# Altium footprint library PcbLib1.PcbLib: 3 footprints
Each footprint in its own frame and in the unit in brackets; x right, y up, seen from the top. Pads: shape width x height; smd on the part's side, far side on the other; paste and mask are expansions set on the pad; w line width, h text height; cw(c..) or ccw(c..) is an arc to the next point about the centre after c.
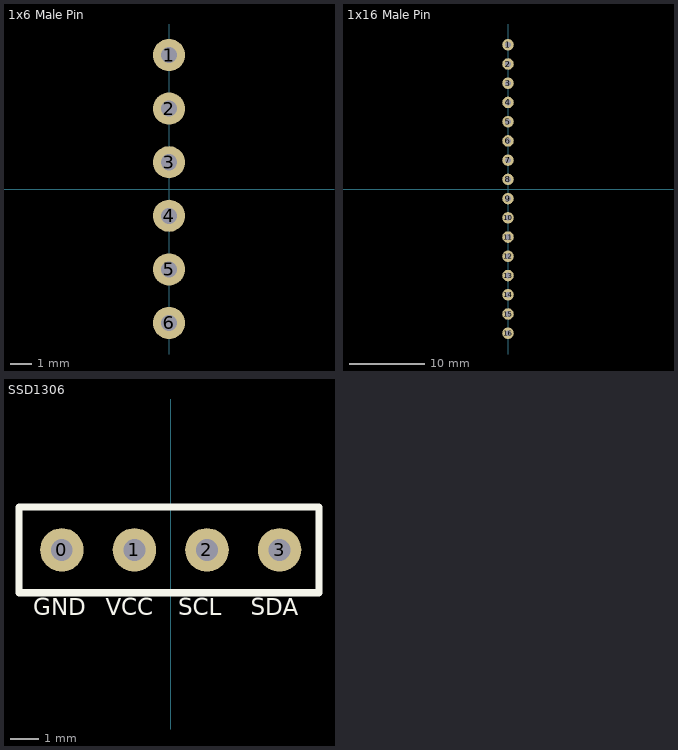
[diagram p0: the footprints below, top view; thin cyan lines are the x and y axes]

## 1x6 Male Pin [mil]
pads (6):
  round 60 hole 30: 1(0,250) 2(0,150) 3(0,50) 4(0,-50) 5(0,-150) 6(0,-250)
3D body "1x6 TH Vert 100mil.step": height 110.24, standoff -349.61, extent -50.79,-300.79 49.21,299.21

## 1x16 Male Pin [mil]
pads (16):
  round 60 hole 30: 1(0,750) 2(0,650) 3(0,550) 4(0,450) 5(0,350) 6(0,250) 7(0,150) 8(0,50) 9(0,-50) 10(0,-150) 11(0,-250) 12(0,-350) 13(0,-450) 14(0,-550) 15(0,-650) 16(0,-750)
3D body "1x16 TH Vert 100mil.step": height 110.24, standoff -349.61, extent -50,-800.79 50,799.21

## SSD1306 [mil]
pads (4):
  round 60 hole 30: 0(-150,479.82) 1(-50,479.82) 2(50,479.82) 3(150,479.82)
Top Overlay:
  lines w10: -209.06,420.77 204.33,420.77 204.33,538.88 -209.06,538.88 -209.06,479.82 -209.06,420.77
  text "SCL" at 10.63,381.83 h39.37
  text "SDA" at 110.63,381.83 h39.37
  text "VCC" at -89.33,381.83 h39.37
  text "GND" at -189.37,381.83 h39.37
3D body "Pantalla OLED 0.96'' 128x64.stp": height 236.22, standoff -196.85, extent -559.06,-539.86 559.06,538.88